# EAGLE library part SOIC8-LONGPAD (library awqua_eagle_library)
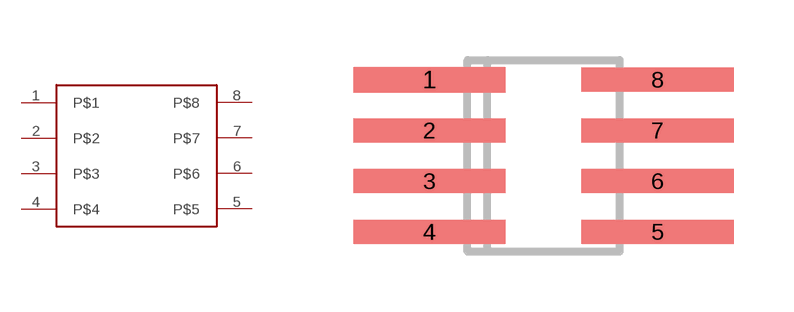
[diagram p6: symbol with the pads of SOIC8-LONGPAD; footprint SOIC8-LONGPAD]

Designator prefix -

## SOIC8-LONGPAD  [SOIC8-LONGPAD]
1  P$1
2  P$2
3  P$3
4  P$4
5  P$5
6  P$6
7  P$7
8  P$8

## Footprint SOIC8-LONGPAD (pad centres in mm)
Small Outline IC
smd 3.81 x 0.635: 1 -0.314,5.715
smd 3.81 x 0.6: 2 -0.314,4.445; 3 -0.314,3.175; 4 -0.314,1.905; 5 5.394,1.905; 6 5.394,3.175; 7 5.394,4.445; 8 5.394,5.715